# Altium schematic symbol library schematics_library_legacy.schlib: 96 symbols (part 4 of 4)
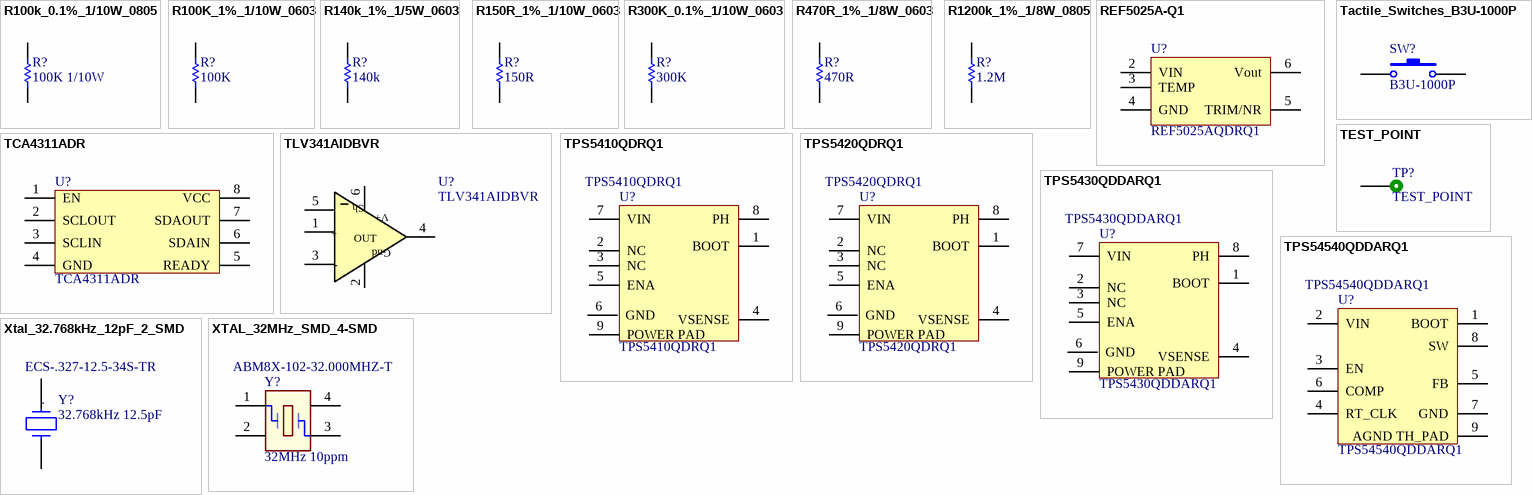
[diagram p5: symbols R100k_0.1%_1/10W_0805 to XTAL_32MHz_SMD_4-SMD]

## R140k_1%_1/5W_0603
designator R?, comment 140k
RES 140k OHM 1/5W 1% 0603; Partnumber: ERJ-P03F1403V; Manufacturer: Panasonic; Resistance: 140kR; Power Rating: 200mW; Voltage Rating: 150V; Temperature Coefficient: 200ppm/°C; NCM: 8533.21.20; Supplier 1: Mouser; Supplier Part Number 1: 667-ERJ-P03F1403V; Stock 1: 4562; Pricing 1: 1=0.58, 10=0.231, 100=0.098, 1000=0.071, 5000=0.04, 10000=0.04 (USD); Mount: Surface Mount; Case/Package: 0603; Weight: 7.1E-05oz; Case Code (Imperial): 0603; Case Code (Metric): 1608; Min Operating Temperature: -55°C; Max Operating Temperature: 155°C; Tolerance: 1%; Packaging: Tape and Reel; Package Quantity: 5000; Composition: Thick Film; Termination: SMD/SMT; Voltage Rating (DC): 150V; Length: 1.6mm; Height: 0.45mm; Width: 0.8mm; REACH SVHC: No SVHC; ComponentLink1URL: http://www.farnell.com/datasheets/2059624.pdf?src-supplier=Farnell; ComponentLink1Description: http://www.farnell.com/datasheets/2059624.pdf?src-supplier=Farnell; ComponentLink2URL: http://www.farnell.com/datasheets/1801181.pdf?src-supplier=Element14; ComponentLink2Description: http://www.farnell.com/datasheets/1801181.pdf?src-supplier=Element14; ComponentLink3URL: https://www.distrelec.biz/Web/Downloads/_t/ds/ERJP-series_eng_tds.pdf?mime=application%2Fpdf&src-supplier=Distrelec; ComponentLink3Description: https://www.distrelec.biz/Web/Downloads/_t/ds/ERJP-series_eng_tds.pdf?mime=application%2Fpdf&src-supplier=Distrelec; Supplier 2: Digi-Key; Supplier Part Number 2: ERJ-P03F1403V-ND; Stock 2: 0; Pricing 2: 5000=0.03863 (USD); Manufacturer Part Number: ERJ-P03F1403V
footprint R0603
pins: 1, 2

## R150R_1%_1/10W_0603
designator R?, comment 150R
RES 150R OHM 1/10W 1% 0603; Partnumber: CRCW0603150RFKEA; Manufacturer: Vishay; Temperature Coefficient: 100ppm/°C; Power Rating: 100mW; Voltage Rating: 75V; NCM: 8533.21.20; Supplier 1: Mouser; Supplier Part Number 1: 71-CRCW0603-150-E3; Stock 1: 109151; Pricing 1: 1=0.1, 10=0.037, 100=0.034, 500=0.015, 1000=0.006, 2500=0.005 (USD); Mount: Surface Mount; Case/Package: 0603; Weight: 7.1E-05oz; Contact Plating: Tin; Case Code (Metric): 1608; Case Code (Imperial): 0603; Min Operating Temperature: -55°C; Max Operating Temperature: 155°C; Tolerance: 1%; Resistance: 150R; Composition: Thick Film; Termination: SMD/SMT; Packaging: Tape and Reel; Package Quantity: 10; Number of Terminations: 2; Military Standard: Not; Max Power Dissipation: 100mW; Voltage Rating (DC): 75V; Features: Automotive AEC-Q200; Length: 1.55mm; Height: 0.45mm; Width: 0.033inch; Depth: 0.85mm; Radiation Hardening: No; Lead Free: Lead Free; REACH SVHC: Unknown; ComponentLink1URL: http://www.vishay.com/docs/20035/dcrcwe3.pdf?src-supplier=Digi-Key; ComponentLink1Description: http://www.vishay.com/docs/20035/dcrcwe3.pdf?src-supplier=Digi-Key; ComponentLink2URL: http://www.mouser.com/ds/2/427/dcrcwe3-109170.pdf?src-supplier=Mouser; ComponentLink2Description: http://www.mouser.com/ds/2/427/dcrcwe3-109170.pdf?src-supplier=Mouser; ComponentLink3URL: http://uk.rs-online.com/webdocs/0d98/0900766b80d98afc.pdf?src-supplier=RSComponents; ComponentLink3Description: http://uk.rs-online.com/webdocs/0d98/0900766b80d98afc.pdf?src-supplier=RSComponents; ComponentLink4URL: http://www.vishay.com/docs/20035/dcrcwe3.pdf?src-supplier=Avnet+Europe; ComponentLink4Description: http://www.vishay.com/docs/20035/dcrcwe3.pdf?src-supplier=Avnet+Europe; ComponentLink5URL: https://www.distrelec.biz/Web/Downloads/a_/en/flD-CRCW-e3_data_en.pdf?mime=application%2Fpdf&src-supplier=Distrelec; ComponentLink5Description: https://www.distrelec.biz/Web/Downloads/a_/en/flD-CRCW-e3_data_en.pdf?mime=application%2Fpdf&src-supplier=Distrelec; ComponentLink6URL: http://www.farnell.com/datasheets/2310790.pdf?src-supplier=Element14; ComponentLink6Description: http://www.farnell.com/datasheets/2310790.pdf?src-supplier=Element14; ComponentLink7URL: https://www.alliedelec.com/m/d/0c934d6939ccefa68dbe0b96d821c8cf.pdf?src-supplier=Allied+Electronics; ComponentLink7Description: https://www.alliedelec.com/m/d/0c934d6939ccefa68dbe0b96d821c8cf.pdf?src-supplier=Allied+Electronics; ComponentLink8URL: http://www.vishay.com/docs/20035/dcrcwe3.pdf?src-supplier=Avnet; ComponentLink8Description: http://www.vishay.com/docs/20035/dcrcwe3.pdf?src-supplier=Avnet; Supplier 2: Digi-Key; Supplier Part Number 2: 541-150HCT-ND; Stock 2: 5196; Pricing 2: 1=0.1, 10=0.034, 100=0.0139, 1000=0.00623, 2500=0.0054 (USD); Manufacturer Part Number: CRCW0603150RFKEA
footprint R0603
pins: 1, 2

## R300K_0.1%_1/10W_0603
designator R?, comment 300K
RES 300K OHM 1/10W 0.1% 0603; Partnumber: RG1608P-304-B-T5; Manufacturer: Susumu; Resistance: 300kR; Power Rating: 62.5mW; Voltage Rating: 75V; Temperature Coefficient: 25ppm/°C; Max Power Dissipation: 100mW; NCM: 8533.21.20; Supplier 1: Mouser; Supplier Part Number 1: 754-RG1608P-304-B-T5; Stock 1: 6874; Pricing 1: 1=0.4, 10=0.303, 100=0.127, 500=0.102, 1000=0.07, 2500=0.065 (USD); Case/Package: 0603; Case Code (Metric): 1608; Case Code (Imperial): 0603; Min Operating Temperature: -55°C; Max Operating Temperature: 155°C; Tolerance: 0.1%; Package Quantity: 1; Packaging: Tape and Reel; Composition: Thin Film; Number of Terminations: 2; Termination: SMD/SMT; Voltage Rating (DC): 75V; Length: 0.063inch; Height: 0.02inch; Width: 0.031inch; Lead Free: Lead Free; ComponentLink1URL: http://susumu-usa.com/pdf/RG_RM_RGH_DATASHEET.pdf?src-supplier=Future+Electronics; ComponentLink1Description: http://susumu-usa.com/pdf/RG_RM_RGH_DATASHEET.pdf?src-supplier=Future+Electronics; ComponentLink2URL: http://www.mouser.com/ds/2/392/n_catalog_partition01_en-1140338.pdf?src-supplier=Mouser; ComponentLink2Description: http://www.mouser.com/ds/2/392/n_catalog_partition01_en-1140338.pdf?src-supplier=Mouser; Supplier 2: Digi-Key; Supplier Part Number 2: RG16P300KBCT-ND; Stock 2: 54195; Pricing 2: 1=0.4, 10=0.303, 100=0.1273, 1000=0.07022, 2500=0.06584 (USD); Manufacturer Part Number: RG1608P-304-B-T5
footprint R0603
pins: 1, 2

## R470R_1%_1/8W_0603
designator R?, comment 470R
RES 470R OHM 1/8W 1% 0603; Partnumber: MCT06030C4700FP500; Manufacturer: Vishay Beyschlag; Temperature Coefficient: 50ppm/°C; Power Rating: 125mW; Voltage Rating: 75V; NCM: 8533.21.20; Supplier 1: Mouser; Supplier Part Number 1: 594-MCT06030C4700FP5; Stock 1: 14813; Pricing 1: 1=0.16, 50=0.076, 100=0.06, 500=0.034, 1000=0.023, 5000=0.019 (USD); Case/Package: 0603; Contact Plating: Tin; Case Code (Metric): 1608; Case Code (Imperial): 0603; Min Operating Temperature: -55°C; Max Operating Temperature: 125°C; Resistance: 470R; Tolerance: 1%; Composition: Thin Film; Packaging: Tape and Reel; Package Quantity: 1; Number of Terminations: 2; Military Standard: Not; Max Power Dissipation: 125mW; Voltage Rating (DC): 75V; Length: 0.061inch; Height: 0.022inch; Width: 0.033inch; Depth: 0.85mm; Radiation Hardening: No; REACH SVHC: No SVHC; Lead Free: Lead Free; ComponentLink1URL: http://www.vishay.com/docs/28705/mcx0x0xpro.pdf?src-supplier=Digi-Key; ComponentLink1Description: http://www.vishay.com/docs/28705/mcx0x0xpro.pdf?src-supplier=Digi-Key; ComponentLink2URL: http://www.vishay.com/docs/28705/mc_pro.pdf?src-supplier=Avnet; ComponentLink2Description: http://www.vishay.com/docs/28705/mc_pro.pdf?src-supplier=Avnet; ComponentLink3URL: http://www.vishay.com/docs/28705/mc_pro.pdf?src-supplier=Future+Electronics; ComponentLink3Description: http://www.vishay.com/docs/28705/mc_pro.pdf?src-supplier=Future+Electronics; ComponentLink4URL: http://www.vishay.com/docs/28705/mc_pro.pdf?src-supplier=Avnet+Europe; ComponentLink4Description: http://www.vishay.com/docs/28705/mc_pro.pdf?src-supplier=Avnet+Europe; Supplier 2: Digi-Key; Supplier Part Number 2: MCT0603-470-CFCT-ND; Stock 2: 21456; Pricing 2: 1=0.17, 10=0.145, 100=0.0568, 1000=0.02376, 2500=0.02178 (USD); Manufacturer Part Number: MCT06030C4700FP500
footprint R0603
pins: 1, 2

## R1200k_1%_1/8W_0805
designator R?, comment 1.2M
RES 1200K OHM 1/8W 0.1% 0805; Partnumber: RG2012P-125-B-T5; Manufacturer: Susumu; Resistance: 1.2MR; Temperature Coefficient: 25ppm/°C; Max Power Dissipation: 125mW; Supplier 1: Mouser; Supplier Part Number 1: 754-RG2012P-125B-T5; Stock 1: 26639; Pricing 1: 1=0.61, 10=0.47, 100=0.197, 500=0.151, 1000=0.109, 2500=0.102 (USD); Case/Package: 0805; Case Code (Imperial): 0805; Case Code (Metric): 2012; Min Operating Temperature: -55°C; Max Operating Temperature: 155°C; Packaging: Cut Tape; Tolerance: 0.1%; Composition: Thin Film; Number of Terminations: 2; Features: Automotive AEC-Q200,Anti-Sulfur; Supplier 2: Digi-Key; Supplier Part Number 2: 408-2024-1-ND; Stock 2: 10826; Pricing 2: 1=0.58, 10=0.448, 100=0.1882, 1000=0.10384, 2500=0.09735 (USD); Manufacturer Part Number: RG2012P-125-B-T5
footprint R0805
pins: 1, 2

## REF5025A-Q1
designator U?, comment REF5025AQDRQ1
REF5025A-Q1; Manufacturer: Texas Instruments; Max Input Voltage: 18V; Output Voltage: 2.5V; Min Input Voltage: 2.7V; Nominal Supply Current: 800uA; Tolerance: 0.1%; Max Output Current: 10mA; Operating Supply Current: 1.2mA; Temperature Coefficient: 3ppm/°C; Reference Type: Series; Output Type: Fixed; Partnumber: REF5025AQDRQ1; Supplier 1: Mouser; Supplier Part Number 1: 595-REF5025AQDRQ1; Stock 1: 493; Pricing 1: 1=3.45, 10=3.09, 25=2.93, 100=2.41, 250=2.16, 500=2.08 (USD); Case/Package: D; Number of Pins: 8; Weight: 0.002677oz; Min Operating Temperature: -40°C; Max Operating Temperature: 125°C; Packaging: Tape and Reel; Package Quantity: 1; Min Output Voltage: 2.5V; Output Current: 10mA; Max Output Voltage: 2.5V; Quiescent Current: 800uA; Radiation Hardening: No; Lead Free: Lead Free; ComponentLink1URL: http://www.ti.com/lit/ds/symlink/ref5025a-q1.pdf?src-supplier=Digi-Key; ComponentLink1Description: http://www.ti.com/lit/ds/symlink/ref5025a-q1.pdf?src-supplier=Digi-Key; Supplier 2: Digi-Key; Supplier Part Number 2: 296-24222-1-ND; Stock 2: 1161; Pricing 2: 1=3.44, 10=3.089, 25=2.9204, 100=2.4013, 250=2.15468, 500=2.0768, 1000=1.72634 (USD); Manufacturer Part Number: REF5025AQDRQ1
footprint SOIC-8 (SOIC, 8-Leads, Body 4,89x3,90mm, Pitch 1,27mm, IPC Medium Density)
pins: 2 VIN, 3 TEMP, 4 GND, 5 TRIM/NR, 6 Vout

## Tactile_Switches_B3U-1000P
designator SW?, comment B3U-1000P
Tactile Switch SPST-NO Top Actuated Surface Mount 12V 0.05A; Manufacturer: TE Connectivity; Mechanical Life: 200000Cycles; Operating Force: 1.5N; Throw Configuration: SPST; Current Rating: 50mA; Contact Resistance: 100mR; Illumination Type: Non-Illuminated,Illuminated; Switch Travel: 0.15mm; Switch Function: Off-Mom; Actuator Type: Standard; Actuator Length: 0.4mm; Ratings: Dust Proof,IP40; Partnumber: B3U-1000P; Supplier 1: Mouser; Supplier Part Number 1: 653-B3U-1000P; Stock 1: 6010; Pricing 1: 1=0.95, 10=0.828, 100=0.672, 500=0.633, 1000=0.548, 3500=0.494 (USD); Mount: Surface Mount; Weight: 0.000776oz; Contact Material: Silver; Min Operating Temperature: -25°C; Max Operating Temperature: 70°C; Packaging: Tape and Reel; Voltage Rating (DC): 12V; Package Quantity: 1; Max Current Rating: 50mA; Termination: SMD/SMT; Orientation: Straight; Max Voltage Rating (DC): 12V; Electrical Life: 200000Cycles; Insulation Resistance: 100MR; Contact Current Rating: 50mA; Length: 4mm; Height: 1.2mm; Depth: 2.5mm; Width: 3mm; REACH SVHC: Unknown; Lead Free: Lead Free; ComponentLink1URL: https://www.verical.com/server-webapp/html/getDatasheet?partID=552554&src-supplier=Verical; ComponentLink1Description: https://www.verical.com/server-webapp/html/getDatasheet?partID=552554&src-supplier=Verical; ComponentLink2URL: http://www.farnell.com/datasheets/2610940.pdf?src-supplier=Element14; ComponentLink2Description: http://www.farnell.com/datasheets/2610940.pdf?src-supplier=Element14; ComponentLink3URL: http://www.farnell.com/datasheets/2610940.pdf?src-supplier=Farnell; ComponentLink3Description: http://www.farnell.com/datasheets/2610940.pdf?src-supplier=Farnell; ComponentLink4URL: https://www.distrelec.biz/Web/Downloads/he/et/B3U_eng_datasheet.pdf?mime=application%2Fpdf&src-supplier=Distrelec; ComponentLink4Description: https://www.distrelec.biz/Web/Downloads/he/et/B3U_eng_datasheet.pdf?mime=application%2Fpdf&src-supplier=Distrelec; ComponentLink5URL: https://omronfs.omron.com/en_US/ecb/products/pdf/en-b3u.pdf?src-supplier=Digi-Key; ComponentLink5Description: https://omronfs.omron.com/en_US/ecb/products/pdf/en-b3u.pdf?src-supplier=Digi-Key; ComponentLink6URL: http://www.onlinecomponents.com/productFiles/mf-OM/en-b3u.pdf?src-supplier=Onlinecomponents.com; ComponentLink6Description: http://www.onlinecomponents.com/productFiles/mf-OM/en-b3u.pdf?src-supplier=Onlinecomponents.com; ComponentLink7URL: https://www.alliedelec.com/m/d/4c8a9ef82804fc3c241a13c1e298fd73.pdf?src-supplier=Allied+Electronics; ComponentLink7Description: https://www.alliedelec.com/m/d/4c8a9ef82804fc3c241a13c1e298fd73.pdf?src-supplier=Allied+Electronics; Supplier 2: Digi-Key; Supplier Part Number 2: SW1020CT-ND; Stock 2: 43708; Pricing 2: 1=0.98, 10=0.943, 25=0.8812, 100=0.765, 250=0.69612, 500=0.64536, 1000=0.59822 (USD); Manufacturer Part Number: B3U-1000P
footprint B3U-1000P
pins: 1, 2

## TCA4311ADR
designator U?
IC SIGNAL BUFFER I2C 8SOIC; Manufacturer: Texas Instruments; Number of Channels: 1; Min Supply Voltage: 2.7V; Max Supply Voltage: 5.5V; Operating Supply Current: 5.1mA; Max Supply Current: 7mA; Max Frequency: 400kHz; Number of Outputs: 2; Partnumber: TCA4311ADR; Supplier 1: Mouser; Supplier Part Number 1: 595-TCA4311ADR; Stock 1: 2408; Pricing 1: 1=2.07, 10=1.75, 100=1.4, 250=1.23, 500=1.19, 1000=0.945 (USD); Mount: Surface Mount; Case/Package: SOIC; Number of Pins: 8; Contact Plating: Gold; Min Operating Temperature: -40°C; Max Operating Temperature: 85°C; Packaging: Tape and Reel; Package Quantity: 1; Interface: I2C; Length: 5mm; Depth: 4mm; Radiation Hardening: No; REACH SVHC: No SVHC; Lead Free: Lead Free; ComponentLink1URL: http://www.ti.com/general/docs/lit/getliterature.tsp?genericPartNumber=TCA4311A&&fileType=pdf&src-supplier=Avnet; ComponentLink1Description: http://www.ti.com/general/docs/lit/getliterature.tsp?genericPartNumber=TCA4311A&&fileType=pdf&src-supplier=Avnet; ComponentLink2URL: http://www.ti.com/lit/ds/symlink/tca4311a.pdf?src-supplier=Avnet+Europe; ComponentLink2Description: http://www.ti.com/lit/ds/symlink/tca4311a.pdf?src-supplier=Avnet+Europe; ComponentLink3URL: http://www.ti.com/lit/ds/symlink/tca4311a.pdf?src-supplier=Digi-Key; ComponentLink3Description: http://www.ti.com/lit/ds/symlink/tca4311a.pdf?src-supplier=Digi-Key; ComponentLink4URL: https://www.verical.com/server-webapp/html/getDatasheet?partID=424385&src-supplier=Verical; ComponentLink4Description: https://www.verical.com/server-webapp/html/getDatasheet?partID=424385&src-supplier=Verical; ComponentLink5URL: http://www.produktinfo.conrad.com/datenblaetter/1100000-1199999/001187988-da-01-en-IC_BUS_BUFF_I2C_HO_TCA4311ADR_SOIC_8_TID.pdf?src-supplier=Conrad; ComponentLink5Description: http://www.produktinfo.conrad.com/datenblaetter/1100000-1199999/001187988-da-01-en-IC_BUS_BUFF_I2C_HO_TCA4311ADR_SOIC_8_TID.pdf?src-supplier=Conrad; Supplier 2: Digi-Key; Supplier Part Number 2: 296-30189-1-ND; Stock 2: 4307; Pricing 2: 1=2.07, 10=1.855, 25=1.75, 100=1.4, 250=1.225, 500=1.19, 1000=0.945 (USD); Manufacturer Part Number: TCA4311ADR
footprint SOIC-8 (SOIC, 8-Leads, Body 4,89x3,90mm, Pitch 1,27mm, IPC Medium Density)
pins: 1 EN, 2 SCLOUT, 3 SCLIN, 4 GND, 5 READY, 6 SDAIN, 7 SDAOUT, 8 VCC (power)

## TEST_POINT
designator TP?  (no BOM)
Test point
footprint TEST_POINT (Footprint not found)
pins: 1

## TLV341AIDBVR
designator U?
Manufacturer: Texas Instruments; Output Current: 115mA; Nominal Supply Current: 150uA; Min Supply Voltage: 1.5V; Max Supply Voltage: 5.5V; Voltage Gain: 110dB; Common Mode Rejection Ratio: 50dB; Nominal Gain Bandwidth Product: 2.2MHz; Number of Channels: 1; Slew Rate: 0.9V/µs; Max I/O Voltage: 1.25mV; Gain Bandwidth Product: 2.3MHz; Input Bias Current: 3nA; Operating Supply Current: 75uA; Partnumber: TLV341AIDBVR; Supplier 1: Mouser; Supplier Part Number 1: 595-TLV341AIDBVR; Stock 1: 2448; Pricing 1: 1=1.1, 10=0.927, 100=0.712, 250=0.629, 500=0.596, 1000=0.464 (USD); Case/Package: SOT-23-6; Number of Pins: 6; Min Operating Temperature: -40°C; Max Operating Temperature: 125°C; Package Quantity: 1; Packaging: Tape and Reel; Number of Circuits: 1; Input Offset Voltage (Vos): 1.25mV; Output Current per Channel: 115mA; Bandwidth: 2.2MHz; Unity Gain Bandwidth Product: 2.3MHz; Number of Elements: 1; Radiation Hardening: No; Lead Free: Lead Free; ComponentLink1URL: http://www.ti.com/lit/ds/symlink/tlv341.pdf?src-supplier=Digi-Key; ComponentLink1Description: http://www.ti.com/lit/ds/symlink/tlv341.pdf?src-supplier=Digi-Key; ComponentLink2URL: http://focus.ti.com/lit/ds/symlink/tlv341.pdf?src-supplier=Avnet; ComponentLink2Description: http://focus.ti.com/lit/ds/symlink/tlv341.pdf?src-supplier=Avnet; Supplier 2: Digi-Key; Supplier Part Number 2: 296-17680-1-ND; Stock 2: 1726; Pricing 2: 1=1.09, 10=0.976, 25=0.9268, 100=0.7117, 250=0.62892, 500=0.5958, 1000=0.4634 (USD); Manufacturer Part Number: TLV341AIDBVR
footprint SOT-23 6L
pins: 1 +IN, 2 Gnd, 3 -IN, 4 OUT, 5 EN, 6 V+
text: Sh; +; -

## TPS5410QDRQ1
designator U?
Manufacturer: Texas Instruments; Number of Outputs: 1; Max Input Voltage: 36V; Output Voltage: 31V; Output Current: 1A; Min Input Voltage: 5.5V; Switching Frequency: 500kHz; Min Output Voltage: 1.221V; Max Output Voltage: 31.32V; Synchronous Rectifier: No; Quiescent Current: 3mA; Output Type: Adjustable; Output Configuration: Positive; Partnumber: TPS5410QDRQ1; Supplier 1: Mouser; Supplier Part Number 1: 595-TPS5410QDRQ1; Stock 1: 2489; Pricing 1: 1=3.21, 10=2.88, 25=2.73, 100=2.24, 250=2.01, 500=1.94 (USD); Mount: Surface Mount; Case/Package: SOIC; Number of Pins: 8; Min Operating Temperature: -40°C; Max Operating Temperature: 125°C; Packaging: Tape and Reel; Package Quantity: 2500; Max Output Current: 1A; Operating Supply Voltage: 36V; Radiation Hardening: No; Lead Free: Lead Free; ComponentLink1URL: http://www.ti.com/lit/ds/symlink/tps5410-q1.pdf?src-supplier=Digi-Key; ComponentLink1Description: http://www.ti.com/lit/ds/symlink/tps5410-q1.pdf?src-supplier=Digi-Key; ComponentLink2URL: http://www.ti.com/lit/gpn/tps5410-q1?src-supplier=Mouser; ComponentLink2Description: http://www.ti.com/lit/gpn/tps5410-q1?src-supplier=Mouser; ComponentLink3URL: http://focus.ti.com/lit/ds/symlink/tps5410-q1.pdf?src-supplier=Avnet+Europe; ComponentLink3Description: http://focus.ti.com/lit/ds/symlink/tps5410-q1.pdf?src-supplier=Avnet+Europe; ComponentLink4URL: http://datasheet.iiic.cc/texas_instruments/TPS5410QDRQ1.pdf?src-supplier=IIIC; ComponentLink4Description: http://datasheet.iiic.cc/texas_instruments/TPS5410QDRQ1.pdf?src-supplier=IIIC; Supplier 2: Digi-Key; Supplier Part Number 2: 296-25229-1-ND; Stock 2: 2566; Pricing 2: 1=3.21, 10=2.88, 25=2.7224, 100=2.2385, 250=2.0086, 500=1.936, 1000=1.6093 (USD); Manufacturer Part Number: TPS5410QDRQ1
footprint SOIC-8 (SOIC, 8-Leads, Body 4,89x3,90mm, Pitch 1,27mm, IPC Medium Density)
pins: 1 BOOT, 2 NC, 3 NC, 4 VSENSE, 5 ENA, 6 GND, 7 VIN, 8 PH, 9 POWER PAD

## TPS5420QDRQ1
designator U?
Manufacturer: Texas Instruments; Number of Outputs: 1; Max Output Current: 2A; Min Input Voltage: 5.5V; Max Input Voltage: 36V; Efficiency: 95%; Output Voltage: 1.22V; Switching Frequency: 500kHz; Synchronous Rectifier: No; Max Output Voltage: 31V; Quiescent Current: 3mA; Output Type: Adjustable; Partnumber: TPS5420QDRQ1; Supplier 1: Mouser; Supplier Part Number 1: 595-TPS5420QDRQ1; Stock 1: 3562; Pricing 1: 1=3.94, 10=3.54, 25=3.35, 100=2.75, 250=2.47, 500=2.38 (USD); Mount: Surface Mount; Case/Package: SOIC; Number of Pins: 8; Weight: 0.002677oz; Min Operating Temperature: -40°C; Max Operating Temperature: 125°C; Package Quantity: 2500; Packaging: Tape and Reel; Output Current: 2A; Min Output Voltage: 1.22V; Operating Supply Voltage: 36V; Radiation Hardening: No; REACH SVHC: No SVHC; Lead Free: Lead Free; ComponentLink1URL: http://www.ti.com/general/docs/lit/getliterature.tsp?genericPartNumber=TPS5420-Q1&&fileType=pdf&src-supplier=Avnet; ComponentLink1Description: http://www.ti.com/general/docs/lit/getliterature.tsp?genericPartNumber=TPS5420-Q1&&fileType=pdf&src-supplier=Avnet; ComponentLink2URL: http://www.ti.com/lit/ds/symlink/tps5420-q1.pdf?src-supplier=Digi-Key; ComponentLink2Description: http://www.ti.com/lit/ds/symlink/tps5420-q1.pdf?src-supplier=Digi-Key; ComponentLink3URL: https://www.verical.com/server-webapp/html/getDatasheet?partID=292405&src-supplier=Verical; ComponentLink3Description: https://www.verical.com/server-webapp/html/getDatasheet?partID=292405&src-supplier=Verical; ComponentLink4URL: http://focus.ti.com/lit/ds/symlink/tps5420-q1.pdf?src-supplier=Avnet+Europe; ComponentLink4Description: http://focus.ti.com/lit/ds/symlink/tps5420-q1.pdf?src-supplier=Avnet+Europe; ComponentLink5URL: http://datasheet.iiic.cc/texas_instruments/TPS5420QDRQ1.pdf?src-supplier=IIIC; ComponentLink5Description: http://datasheet.iiic.cc/texas_instruments/TPS5420QDRQ1.pdf?src-supplier=IIIC; Supplier 2: Digi-Key; Supplier Part Number 2: 296-23226-1-ND; Stock 2: 4441; Pricing 2: 1=3.94, 10=3.534, 25=3.3412, 100=2.7473, 250=2.46512, 500=2.376, 1000=1.97505 (USD); Manufacturer Part Number: TPS5420QDRQ1
footprint SO8 Power PAD
pins: 1 BOOT, 2 NC, 3 NC, 4 VSENSE, 5 ENA, 6 GND, 7 VIN, 8 PH, 9 POWER PAD

## TPS5430QDDARQ1
designator U?
Manufacturer: Texas Instruments; Efficiency: 95%; Number of Outputs: 1; Output Voltage: 31V; Output Current: 3A; Min Input Voltage: 5.5V; Max Input Voltage: 36V; Switching Frequency: 500kHz; Synchronous Rectifier: No; Min Output Voltage: 1.22V; Quiescent Current: 3mA; Output Type: Adjustable; Partnumber: TPS5430QDDARQ1; Supplier 1: Mouser; Supplier Part Number 1: 595-TPS5430QDDARQ1; Stock 1: 2625; Pricing 1: 1=4.82, 10=4.32, 25=4.09, 100=3.36, 250=3.02, 500=2.91 (USD); Mount: Surface Mount; Number of Pins: 8; Weight: 0.00249oz; Min Operating Temperature: -40°C; Max Operating Temperature: 125°C; Packaging: Tape and Reel; Max Output Current: 3A; Package Quantity: 2500; Max Output Voltage: 31V; Operating Supply Voltage: 36V; Radiation Hardening: No; REACH SVHC: No SVHC; Lead Free: Lead Free; ComponentLink1URL: http://www.ti.com/general/docs/lit/getliterature.tsp?genericPartNumber=TPS5430-Q1&&fileType=pdf&src-supplier=Avnet; ComponentLink1Description: http://www.ti.com/general/docs/lit/getliterature.tsp?genericPartNumber=TPS5430-Q1&&fileType=pdf&src-supplier=Avnet; ComponentLink2URL: http://focus.ti.com/lit/ds/symlink/tps5430-q1.pdf?src-supplier=Avnet+Europe; ComponentLink2Description: http://focus.ti.com/lit/ds/symlink/tps5430-q1.pdf?src-supplier=Avnet+Europe; ComponentLink3URL: http://www.ti.com/lit/ds/symlink/tps5430-q1.pdf?src-supplier=Digi-Key; ComponentLink3Description: http://www.ti.com/lit/ds/symlink/tps5430-q1.pdf?src-supplier=Digi-Key; ComponentLink4URL: http://www.farnell.com/datasheets/2019094.pdf?src-supplier=Element14; ComponentLink4Description: http://www.farnell.com/datasheets/2019094.pdf?src-supplier=Element14; ComponentLink5URL: http://www.ti.com/lit/gpn/tps5430-q1?src-supplier=Mouser; ComponentLink5Description: http://www.ti.com/lit/gpn/tps5430-q1?src-supplier=Mouser; ComponentLink6URL: http://datasheet.iiic.cc/texas_instruments/TPS5430QDDARQ1.pdf?src-supplier=IIIC; ComponentLink6Description: http://datasheet.iiic.cc/texas_instruments/TPS5430QDDARQ1.pdf?src-supplier=IIIC; Supplier 2: Digi-Key; Supplier Part Number 2: 296-23177-1-ND; Stock 2: 2162; Pricing 2: 1=4.81, 10=4.32, 25=4.0836, 100=3.3578, 250=3.01292, 500=2.904, 1000=2.41395 (USD); Manufacturer Part Number: TPS5430QDDARQ1
footprint SO8 Power PAD
pins: 1 BOOT, 2 NC, 3 NC, 4 VSENSE, 5 ENA, 6 GND, 7 VIN, 8 PH, 9 POWER PAD

## TPS54540QDDARQ1
designator U?
Manufacturer: Texas Instruments; Number of Outputs: 1; Output Voltage: 41.1V; Max Output Current: 5A; Min Input Voltage: 4.5V; Max Input Voltage: 42V; Switching Frequency: 2.5MHz; Synchronous Rectifier: No; Min Output Voltage: 800mV; Quiescent Current: 146uA; Output Type: Adjustable; Output Configuration: Positive; Partnumber: TPS54540QDDARQ1; Supplier 1: Mouser; Supplier Part Number 1: 595-TPS54540QDDARQ1; Stock 1: 2115; Pricing 1: 1=5.69, 10=5.1, 25=4.83, 100=3.97, 250=3.56, 500=3.43 (USD); Mount: Surface Mount; Case/Package: SOP; Number of Pins: 8; Weight: 0.000917oz; Contact Plating: Gold,Silver; Min Operating Temperature: -40°C; Max Operating Temperature: 125°C; Package Quantity: 2500; Packaging: Tape and Reel; Output Current: 5A; Max Output Voltage: 41.1V; Operating Supply Voltage: 42V; Radiation Hardening: No; Lead Free: Lead Free; ComponentLink1URL: http://www.ti.com/lit/ds/symlink/tps54540-q1.pdf?src-supplier=Digi-Key; ComponentLink1Description: http://www.ti.com/lit/ds/symlink/tps54540-q1.pdf?src-supplier=Digi-Key; ComponentLink2URL: http://www.ti.com/lit/ds/symlink/tps54540-q1.pdf?src-supplier=Avnet; ComponentLink2Description: http://www.ti.com/lit/ds/symlink/tps54540-q1.pdf?src-supplier=Avnet; Supplier 2: Digi-Key; Supplier Part Number 2: 296-38301-1-ND; Stock 2: 3151; Pricing 2: 1=5.68, 10=5.1, 25=4.8216, 100=3.9646, 250=3.5574, 500=3.4288, 1000=2.85019 (USD); Manufacturer Part Number: TPS54540QDDARQ1
footprint SO8 Power PAD
pins: 1 BOOT, 2 VIN, 3 EN, 4 RT_CLK, 5 FB, 6 COMP, 7 GND, 8 SW, 9 AGND TH_PAD

## Xtal_32.768kHz_12pF_2_SMD
designator Y?, comment 32.768kHz 12.5pF  Manufacturer Part Number: ECS-.327-12.5-34S-TR
32.768kHz ±20ppm Crystal 12.5pF 70 kOhm -40°C ~ 125°C; Manufacturer: ECS International; ESR (Equivalent Series Resistance): 70kR; Partnumber: ECS-.327-12.5-34S-TR; NCM: 8541.60.10; Supplier 1: Mouser; Supplier Part Number 1: 520-ECS32.7-12.534ST; Stock 1: 9496; Pricing 1: 1=1.25, 10=1.11, 50=1.04, 100=0.913, 500=0.864, 1000=0.72 (USD); Mount: Surface Mount; Case/Package: SMD/SMT; Number of Pins: 2; Min Operating Temperature: -40°C; Max Operating Temperature: 125°C; Package Quantity: 3000; Packaging: Tape and Reel; Frequency: 32.768kHz; Frequency Tolerance: 20ppm; Load Capacitance: 12.5pF; Termination: SMD/SMT; Tolerance: 20ppm; Length: 0.126inch; Height: 0.035inch; Width: 1.5mm; Lead Pitch: 1.8mm; Lead Free: Lead Free; ComponentLink1URL: http://www.ecsxtal.com/store/pdf/ECX_34S.pdf?src-supplier=Digi-Key; ComponentLink1Description: http://www.ecsxtal.com/store/pdf/ECX_34S.pdf?src-supplier=Digi-Key; ComponentLink2URL: http://www.ecsxtal.com/store/pdf/partnumber4.pdf?src-supplier=Digi-Key; ComponentLink2Description: http://www.ecsxtal.com/store/pdf/partnumber4.pdf?src-supplier=Digi-Key; Supplier 2: Digi-Key; Supplier Part Number 2: XC1967CT-ND; Stock 2: 16165; Pricing 2: 1=1.07, 10=0.944, 50=0.8828, 100=0.7802, 500=0.73918, 1000=0.61598 (USD)
footprint ABS06 0805
pins: 1, 2
text: .

## XTAL_32MHz_SMD_4-SMD
designator Y?, comment 32MHz 10ppm  Manufacturer Part Number: ABM8X-102-32.000MHZ-T
32MHz ±10ppm Crystal 10pF 60 Ohm -40°C ~ 125°C; Manufacturer: Abracon; ESR (Equivalent Series Resistance): 60R; Tolerance: 50ppm; Frequency Stability: 25ppm; Partnumber: ABM8X-102-32.000MHZ-T; NCM: 8541.60.10; Supplier 1: Mouser; Supplier Part Number 1: 815-ABM8X-102-32.0-T; Stock 1: 365; Pricing 1: 1=6.08, 10=5.86, 25=5.68, 50=5.51, 100=5.35, 250=5.19 (USD); Mount: Surface Mount; Case/Package: SMD/SMT; Min Operating Temperature: -40°C; Max Operating Temperature: 125°C; Frequency: 32MHz; Load Capacitance: 10pF; Package Quantity: 1000; Packaging: Tape and Reel; Frequency Tolerance: 10ppm; Termination: SMD/SMT; Composition: Ceramic; Length: 0.126inch; Height: 0.024inch; Width: 2.5mm; ComponentLink1URL: http://www.mouser.com/ds/2/3/ABM8X-39996.pdf?src-supplier=Mouser; ComponentLink1Description: http://www.mouser.com/ds/2/3/ABM8X-39996.pdf?src-supplier=Mouser; ComponentLink2URL: http://abracon.com/Resonators/ABM8X.pdf?src-supplier=Digi-Key; ComponentLink2Description: http://abracon.com/Resonators/ABM8X.pdf?src-supplier=Digi-Key; Supplier 2: Digi-Key; Supplier Part Number 2: 535-11454-1-ND; Stock 2: 689; Pricing 2: 1=6.22, 10=5.864, 50=5.6866, 100=5.5089, 500=5.15344 (USD)
footprint XTAL_ABM8X
pins: 1, 2, 3, 4